# Altium footprint library M3.PcbLib: 35 footprints (part 3 of 3)
Each footprint in its own frame and in the unit in brackets; x right, y up, seen from the top. Pads: shape width x height; smd on the part's side, far side on the other; paste and mask are expansions set on the pad; w line width, h text height; cw(c..) or ccw(c..) is an arc to the next point about the centre after c.
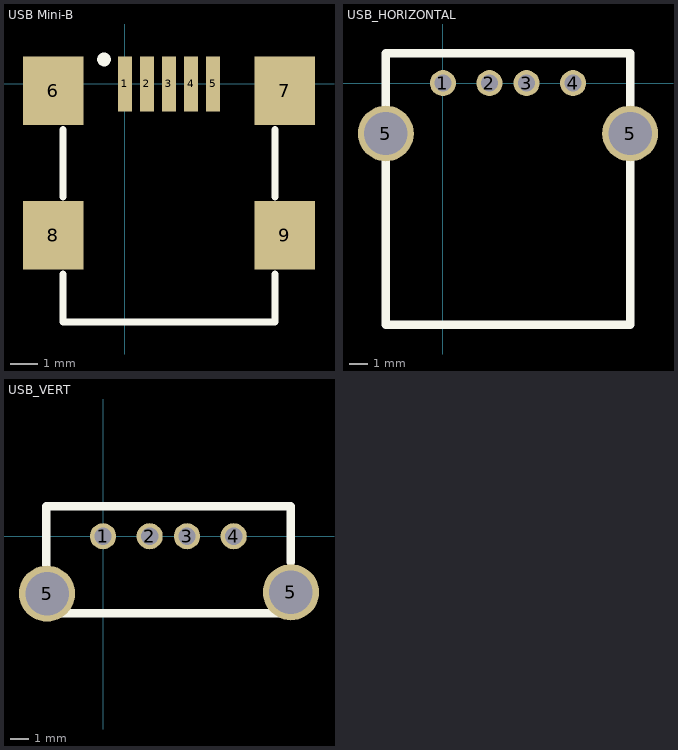
[diagram p2: the footprints below, top view; thin cyan lines are the x and y axes]

## USB Mini-B [mm]
pads (9):
  rect 0.5x2 smd: 1(0,0) 2(0.8,0) 3(1.6,0) 4(2.4,0) 5(3.2,0)
  rect 2.2x2.5 smd: 6(-2.6,-0.25) 7(5.8,-0.25) 8(-2.6,-5.5) 9(5.8,-5.5)
Top Overlay:
  circle w0.25: c-0.76,0.889 r0.125
  lines w0.254: -2.25,-6.9 -2.25,-8.65 5.45,-8.65 5.45,-6.9 ; -2.25,-4.1 -2.25,-1.65 ; 5.45,-4.1 5.45,-1.65

## USB_HORIZONTAL [mm]
pads (6):
  round 1.4 hole 0.92: 1(0,0) 2(2.5,0) 3(4.5,0) 4(7,0)
  round 3 hole 2.33: 5(-3.07,-2.71) 5(10.07,-2.71)
Top Overlay:
  lines w0.457: -3.07,1.6 -3.07,-12.99 10.07,-12.99 10.07,1.6 ; -3.05,1.6 10.05,1.6
3D body: height 7.01, standoff 0, extent -3.048,-12.954 10.033,1.524

## USB_VERT [mm]
pads (6):
  round 1.4 hole 0.92: 1(0,0) 2(2.5,0) 3(4.5,0) 4(7,0)
  round 3 hole 2.33: 5(-3,-3.07) 5(10.07,-3)
Top Overlay:
  lines w0.457: -3.05,-1.524 -3.05,1.6 10.05,1.6 10.05,-1.397 ; -3.048,-4.12 10.16,-4.12
3D body: height 13.7, standoff 0, extent -3.048,-4.064 10.033,1.524